# Altium footprint library MicroSideLED2808.PcbLib: 1 footprints
Each footprint in its own frame and in the unit in brackets; x right, y up, seen from the top. Pads: shape width x height; smd on the part's side, far side on the other; paste and mask are expansions set on the pad; w line width, h text height; cw(c..) or ccw(c..) is an arc to the next point about the centre after c.
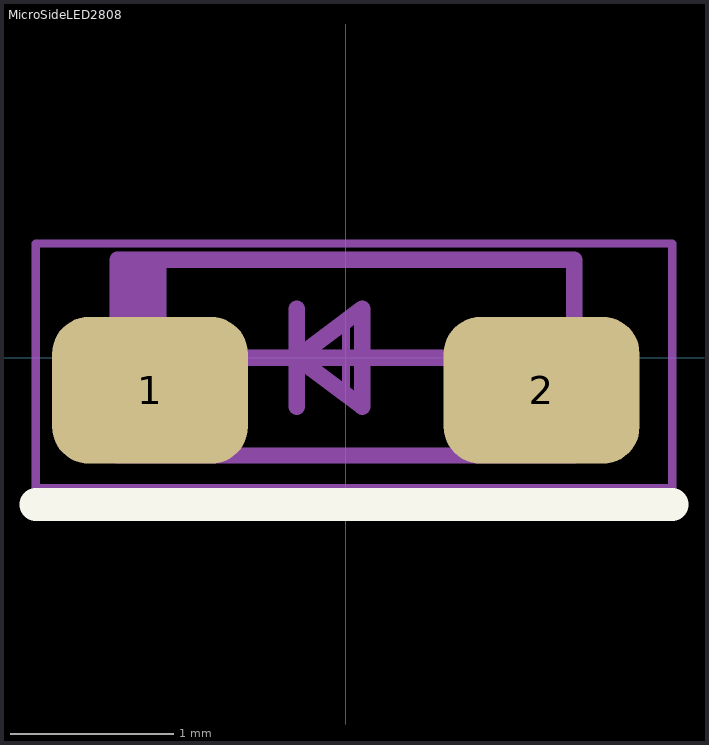
[diagram p0: the footprint, top view; thin cyan lines are the x and y axes]

## MicroSideLED2808 [mm]
pads (2):
  rrect50% 1.2x0.9 smd mask+0.05: 1(-1.2,-0.2) 2(1.2,-0.2)
Top Overlay:
  lines w0.2: -1.9,-0.9 2,-0.9
Top Assembly:
  rectangle: -1.399,-0.6 -1.1,0.6
  lines w0.1: -0.8,0 0.9,0 ; -0.3,-0.3 -0.3,0.3 ; -1.399,-0.6 -1.399,0.6 1.399,0.6 1.399,-0.6 -1.399,-0.6 ; -0.3,0 0.1,0.3 0.1,-0.3 -0.3,0
Top Courtyard:
  lines w0.05: -0.2,0 0.2,0 ; 0,-0.2 0,0.2 ; -1.9,-0.8 2,-0.8 2,0.7 -1.9,0.7 -1.9,-0.8
3D body "LW_Y1SG_010310_geometry.STEP": height 0.8, standoff 0, extent -1.399,-0.6 1.399,0.6